# Altium footprint library 0705450037.PcbLib: 1 footprints
Each footprint in its own frame and in the unit in brackets; x right, y up, seen from the top. Pads: shape width x height; smd on the part's side, far side on the other; paste and mask are expansions set on the pad; w line width, h text height; cw(c..) or ccw(c..) is an arc to the next point about the centre after c.
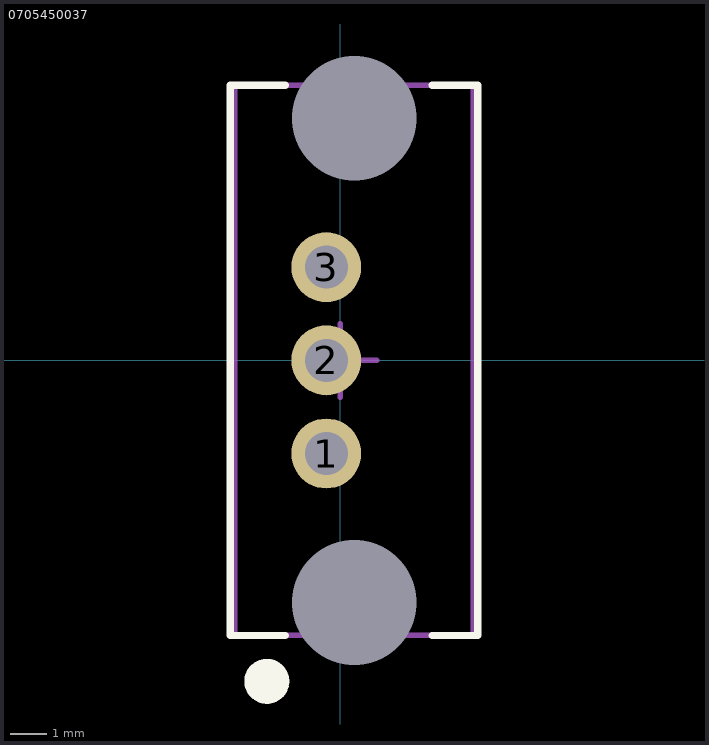
[diagram p0: the footprint, top view; thin cyan lines are the x and y axes]

## 0705450037 [mm]
pads (5):
  round 1.905 hole 1.17 mask+0.051: 1(-0.38,-2.54) 2(-0.38,0) 3(-0.38,2.54)
  round 0 hole 3.4: ""(0.38,-6.6) ""(0.38,6.6)
Top Overlay:
  circle w0.635: c-2,-8.75 r0.296
  lines w0.2: -1.5,-7.5 -3,-7.5 -3,7.5 -1.5,7.5 ; 2.5,-7.5 3.75,-7.5 3.75,7.5 2.5,7.5
Mechanical 13:
  lines w0.15: -2.88,-7.5 -2.88,7.5 3.62,7.5 3.62,-7.5 -2.88,-7.5
Mechanical 15:
  lines w0.15: 0,-1 0,0 ; 0,0 1,0 0,0 ; 0,0 0,1 0,0 ; 0,0 -1,0 0,0
3D body "0705450037.stp": height 11.82, standoff -3.29, extent -2.92,-7.468 3.684,7.468